# Altium footprint library PCB2.PcbLib: 6 footprints
Each footprint in its own frame and in the unit in brackets; x right, y up, seen from the top. Pads: shape width x height; smd on the part's side, far side on the other; paste and mask are expansions set on the pad; w line width, h text height; cw(c..) or ccw(c..) is an arc to the next point about the centre after c.
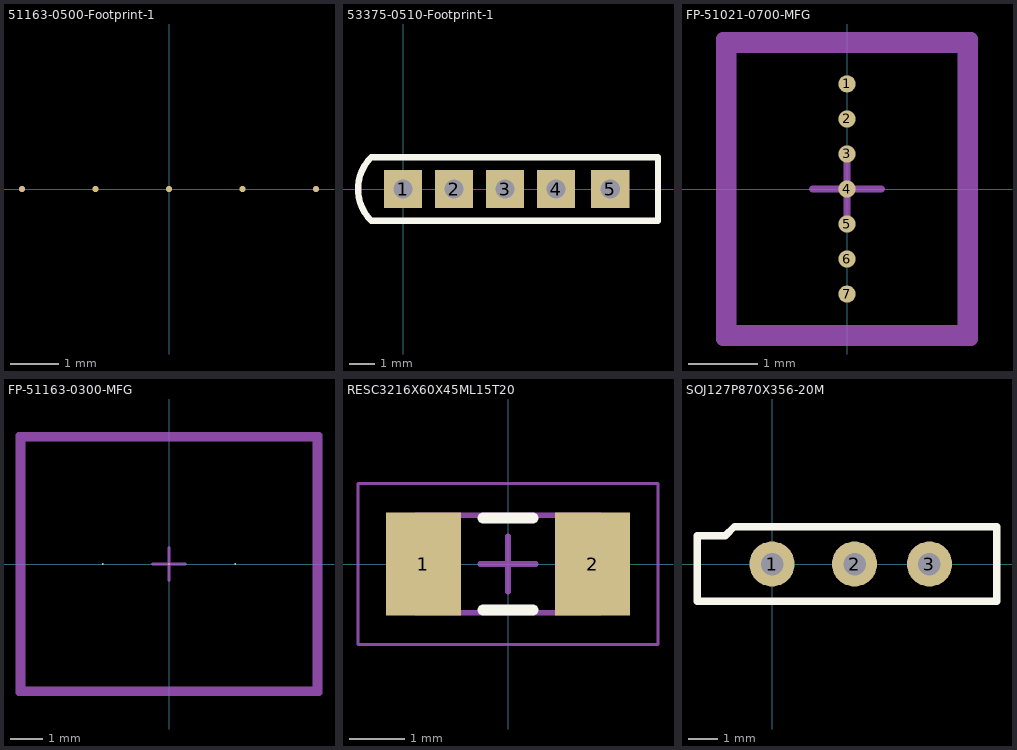
[diagram p0: the footprints below, top view; thin cyan lines are the x and y axes]

## 51163-0500-Footprint-1 [mil]
pads (5):
  round 5 all layers, no hole: 1(-120,0) 2(-60,0) 3(0,0) 4(60,0) 5(120,0)
3D body "511630500.stp": height 295.28, standoff 0, extent -276.65,-195 266.65,180.98

## 53375-0510-Footprint-1 [mil]
pads (5):
  rect 60x60 hole 30: 1(0,0) 2(80,0) 3(160,0) 4(240,0) 5(325,0)
Top Overlay:
  lines w10: -50,-50 cw(c0,0) -50,50 400,50 400,-50 -50,-50

## FP-51021-0700-MFG [mm]
pads (7):
  round 0.25 all layers, no hole: 1(0,1.524) 2(0,1.016) 3(0,0.508) 4(0,0) 5(0,-0.508) 6(0,-1.016) 7(0,-1.524)
Top 3D Body:
  lines w0.2: -1.7,-2.075 1.7,-2.075 1.7,2.075 -1.7,2.075 -1.7,-2.075
Top Courtyard:
  lines w0.2: -1.8,-2.175 1.8,-2.175 1.8,2.175 -1.8,2.175 -1.8,-2.175
Top Assembly:
  lines w0.2: -1.8,-2.175 1.8,-2.175 1.8,2.175 -1.8,2.175 -1.8,-2.175
Top Component Center:
  lines w0.1: -0.5,0 0.5,0 ; 0,-0.5 0,0.5
3D body "Conn_Molex_51021-0700_eec.STEP": height 2.98, standoff -1.02, extent -1.6,-5.25 1.6,5.25

## FP-51163-0300-MFG [mil]
pads (3):
  round 2 all layers, no hole: 1(-80,0) 2(0,0) 3(80,0)
Top 3D Body:
  lines w7.87: -177.17,-151.57 -177.17,151.57 177.17,151.57 177.17,-151.57 -177.17,-151.57
Top Courtyard:
  lines w7.87: -181.1,-155.51 -181.1,155.51 181.1,155.51 181.1,-155.51 -181.1,-155.51
Top Assembly:
  lines w7.87: -181.1,-155.51 -181.1,155.51 181.1,155.51 181.1,-155.51 -181.1,-155.51
Top Component Center:
  lines w3.94: -19.68,0 19.68,0 ; 0,-19.68 0,19.68
3D body "Conn_Molex_51163-0300_eec.STEP": height 10, standoff 0, extent -181.1,-155 181.1,156.02

## RESC3216X60X45ML15T20 [mm] "Chip Resistor, 2-Leads, Body 3.3x1.75mm, IPC Low Density"
height 0.6
pads (2):
  rect 1.35x1.85 smd: 1(-1.525,0) 2(1.525,0)
Top Overlay:
  lines w0.2: -0.45,-0.825 0.45,-0.825 ; -0.45,0.825 0.45,0.825
Mechanical 13:
  lines w0.1: -1.65,-0.875 -1.65,0.875 1.65,0.875 1.65,-0.875 -1.65,-0.875
Mechanical 15:
  lines w0.05: -2.7,-1.45 -2.7,1.45 2.7,1.45 2.7,-1.45 -2.7,-1.45
  lines w0.1: -0.5,0 0.5,0 ; 0,-0.5 0,0.5
3D body "RESC3116X06M.step": height 0.6, standoff 0, extent -1.65,-0.875 1.65,0.875

## SOJ127P870X356-20M [mil] "SOJ, 20-Leads, Body 13.00x8.66mm, Pitch 1.27mm, IPC Low Density"
height 140.16
pads (3):
  round 60 hole 30: 1(0,0) 2(110,0) 3(210,0)
Top Overlay:
  lines w10: -100,-50 300,-50 300,50 -50,50 -62.5,37.5 -87.5,37.5 -100,37.5 -100,-50